# Altium schematic symbol library ModuleBluetooth.SchLib: 1 symbol
Pins are listed as number, name and electrical type; pins without a type are passive.

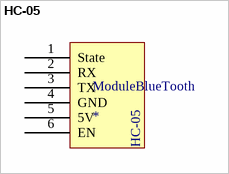
[diagram p0: symbol HC-05]

## HC-05
designator ModuleBlueTooth
footprint HC-05 Droit
footprint HC-05 Couché
pins: 1 State, 2 RX, 3 TX, 4 GND, 5 5V, 6 EN